# Altium footprint library 4sot223.PcbLib: 1 footprints
Each footprint in its own frame and in the unit in brackets; x right, y up, seen from the top. Pads: shape width x height; smd on the part's side, far side on the other; paste and mask are expansions set on the pad; w line width, h text height; cw(c..) or ccw(c..) is an arc to the next point about the centre after c.
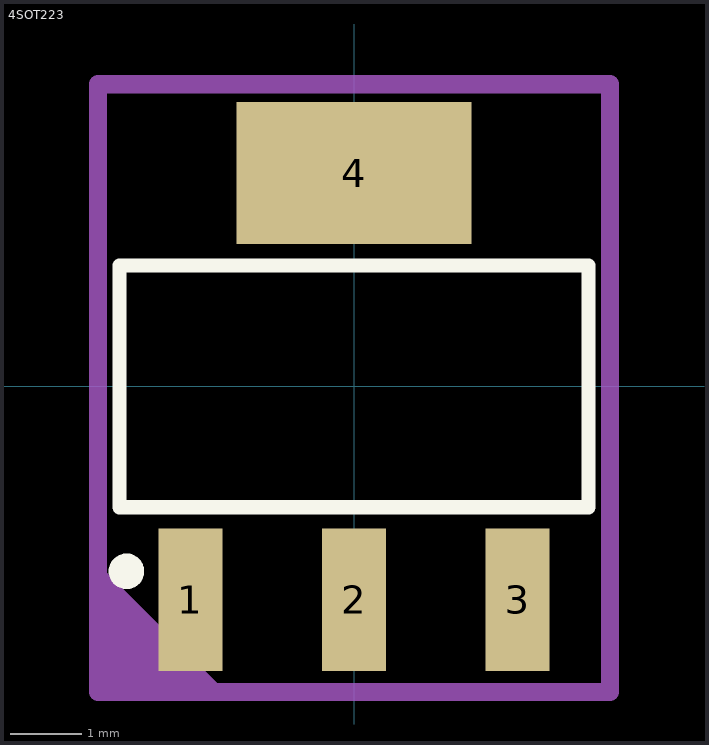
[diagram p0: the footprint, top view; thin cyan lines are the x and y axes]

## 4SOT223 [mm] "SOT223, 4-Leads, Body 6.6x7.1mm (max), Pitch 2.30mm, IPC Medium Density"
height 1.65
pads (4):
  rect 0.9x2 smd: 1(-2.3,-3) 2(0,-3) 3(2.3,-3)
  rect 3.3x2 smd: 4(0,3)
Top Overlay:
  circle w0.25: c-3.2,-2.6 r0.125
  lines w0.2: -3.3,-1.7 3.3,-1.7 3.3,1.7 -3.3,1.7 -3.3,-1.7
Top 3D Body:
  lines w0.1: -3.3,-1.7 3.3,-1.7 3.3,1.7 -3.3,1.7 -3.3,-1.7
Top Courtyard:
  region: -3.6,-4.3 -3.6,-2.5 -1.8,-4.3
  lines w0.254: -3.6,-4.3 3.6,-4.3 3.6,4.25 -3.6,4.25 -3.6,-4.3
Top Designator (Mech17):
  text ".Designator" at -2.197,-0.358 h1.02
3D body "NSV1C201MZ4T1G.step": height 1.76, standoff 0.01, extent -3.25,-3.5 3.25,3.5